# EAGLE library part HI-3593 (library barthess)
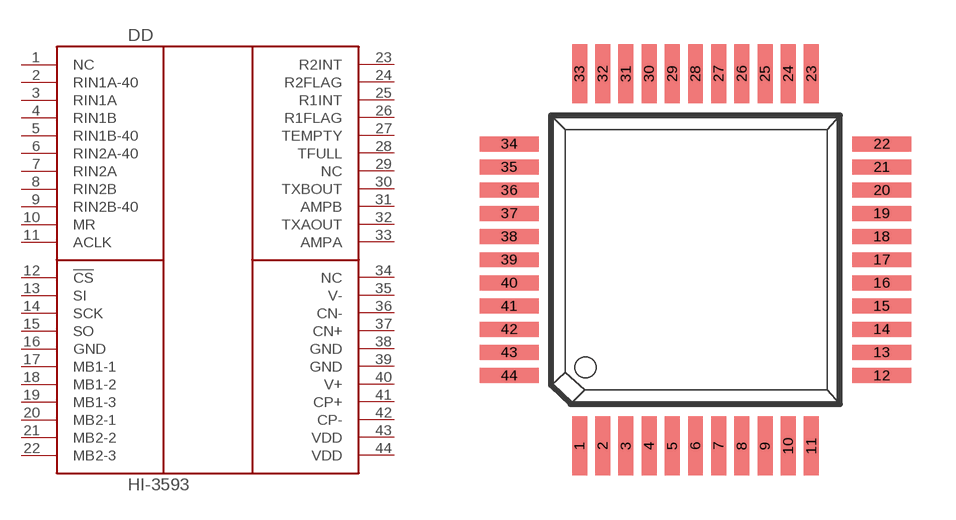
[diagram p39: symbol with the pads of PQFP-44; footprint PQFP-44]

Designator prefix DD

## HI-3593PQ  [PQFP-44]
1  NC  nc
2  RIN1A-40  in
3  RIN1A  in
4  RIN1B  in
5  RIN1B-40  in
6  RIN2A-40  in
7  RIN2A  in
8  RIN2B  in
9  RIN2B-40  in
10  MR  in
11  ACLK  in
12  !CS  in
13  SI  in
14  SCK  in
15  SO  out
16  GND  pwr
17  MB1-1  out
18  MB1-2  out
19  MB1-3  out
20  MB2-1  out
21  MB2-2  out
22  MB2-3  out
23  R2INT  out
24  R2FLAG  out
25  R1INT  out
26  R1FLAG  out
27  TEMPTY  out
28  TFULL  out
29  NC  nc
30  TXBOUT  out
31  AMPB  out
32  TXAOUT  out
33  AMPA  out
34  NC  nc
35  V-  pwr
36  CN-  pwr
37  CN+  pwr
38  GND  pwr
39  GND  pwr
40  V+  pwr
41  CP+  pwr
42  CP-  pwr
43  VDD  pwr
44  VDD  pwr

## Footprint PQFP-44 (pad centres in mm)
Pastic Quad Flat Pack
smd 0.508 x 2.007: 1 -3.937,-6.706; 2 -3.15,-6.706; 3 -2.362,-6.706; 4 -1.575,-6.706; 5 -0.787,-6.706; 6 0,-6.706; 7 0.787,-6.706; 8 1.575,-6.706; 9 2.362,-6.706; 10 3.15,-6.706; 11 3.937,-6.706; 23 3.937,5.944; 24 3.15,5.944; 25 2.362,5.944; 26 1.575,5.944; 27 0.787,5.944; 28 0,5.944; 29 -0.787,5.944; 30 -1.575,5.944; 31 -2.362,5.944; 32 -3.15,5.944; 33 -3.937,5.944
smd 2.007 x 0.508: 12 6.325,-4.318; 13 6.325,-3.531; 14 6.325,-2.743; 15 6.325,-1.956; 16 6.325,-1.168; 17 6.325,-0.381; 18 6.325,0.406; 19 6.325,1.194; 20 6.325,1.981; 21 6.325,2.769; 22 6.325,3.556; 34 -6.325,3.556; 35 -6.325,2.769; 36 -6.325,1.981; 37 -6.325,1.194; 38 -6.325,0.406; 39 -6.325,-0.381; 40 -6.325,-1.168; 41 -6.325,-1.956; 42 -6.325,-2.743; 43 -6.325,-3.531; 44 -6.325,-4.318